# Altium schematic symbol library XP_9P.Schlib: 1 symbol
Pins are listed as number, name and electrical type; pins without a type are passive.

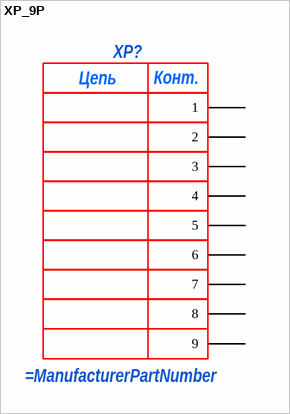
[diagram p0: symbol XP_9P]

## XP_9P
designator XP?
pins: 1, 2, 3, 4, 5, 6, 7, 8, 9
text: Цепь; Конт.